# Altium footprint library Adams Altium Library.PcbLib: 250 footprints (part 14 of 16)
Each footprint in its own frame and in the unit in brackets; x right, y up, seen from the top. Pads: shape width x height; smd on the part's side, far side on the other; paste and mask are expansions set on the pad; w line width, h text height; cw(c..) or ccw(c..) is an arc to the next point about the centre after c.
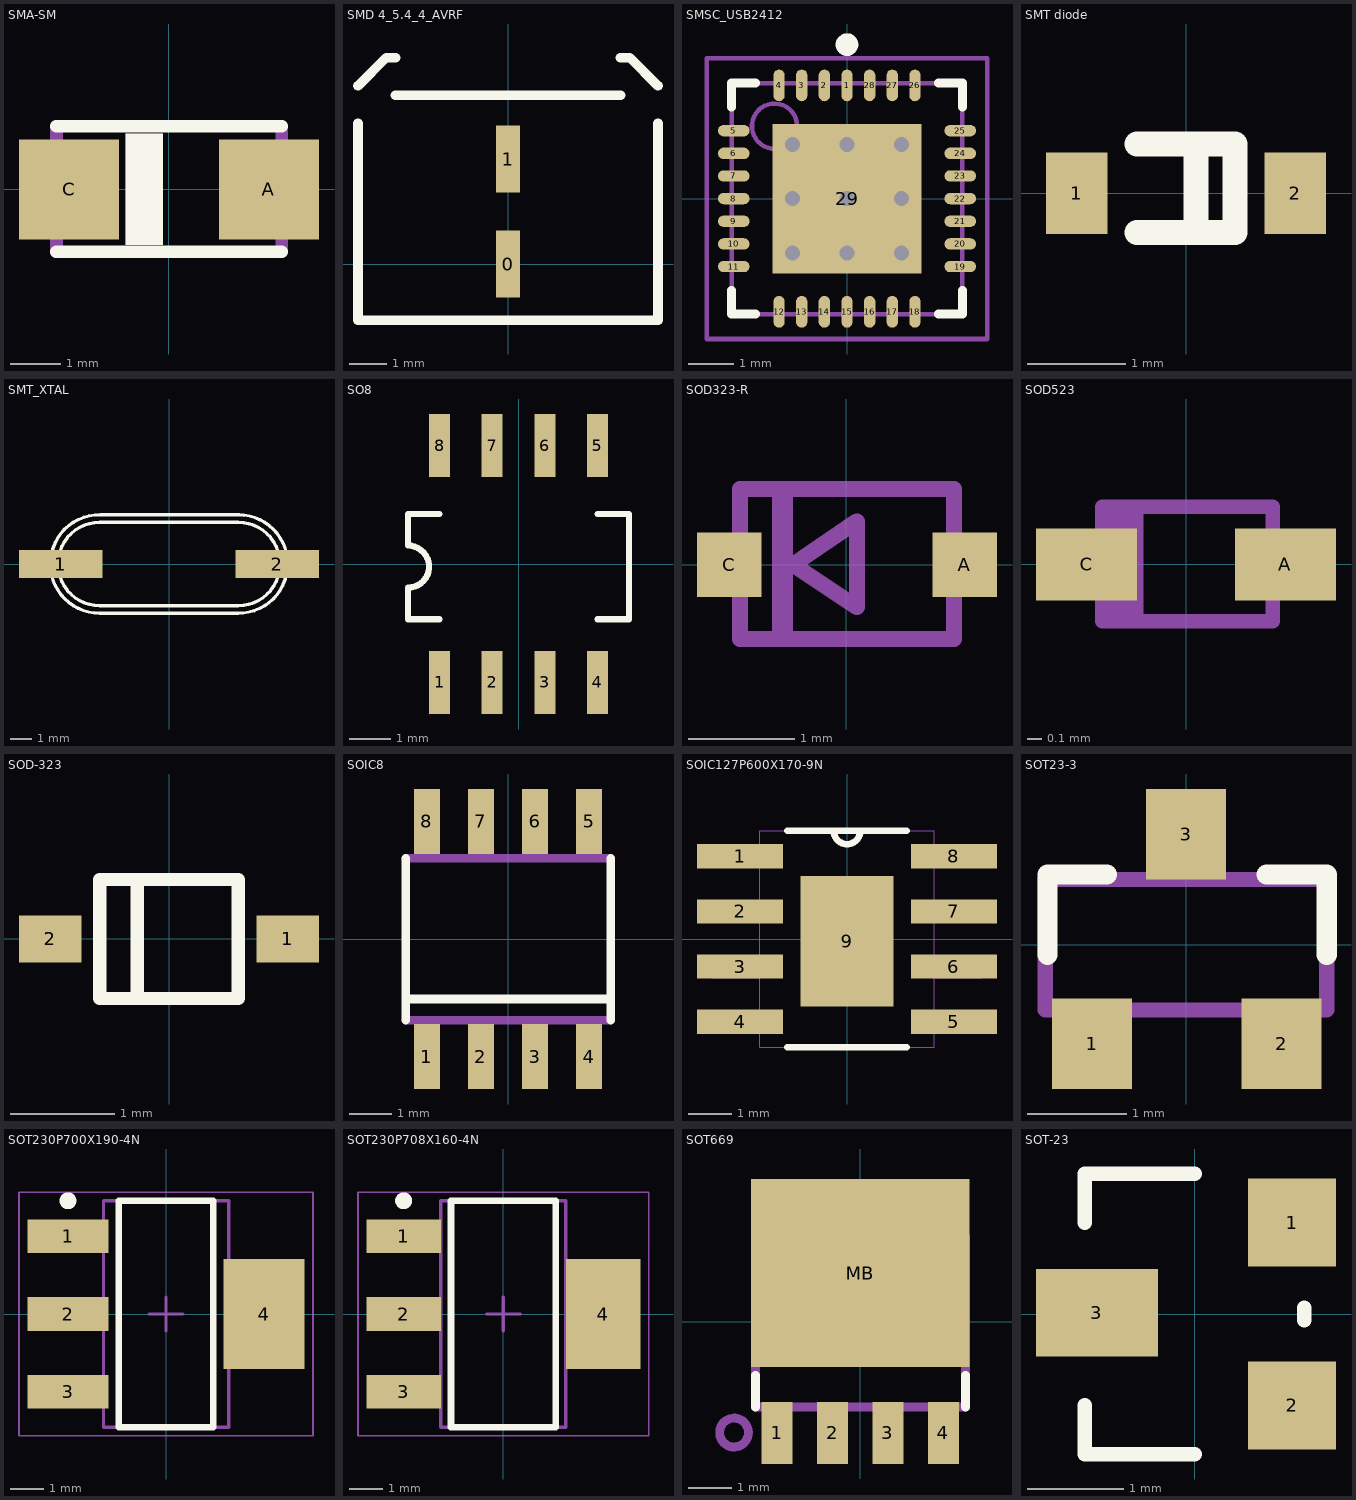
[diagram p13: the footprints below, top view; thin cyan lines are the x and y axes]

## SMA-SM [mil]
pads (2):
  rect 79x79 smd: A(79,0) C(-78.74,0)
Top Overlay:
  rectangle: -34.06,-43.9 -4.53,44
  lines w10: -88.58,-49.21 89,-49.21 ; -88.58,50 89,50
Mechanical 16:
  rectangle: -34.06,-43.9 -4.53,44
  rectangle: -110.24,-31.5 -93.7,32
  rectangle: 94,-32.48 111,32
  lines w10: -88.58,-49.21 -88.58,50 ; 89,-49.21 89,50
3D body: height 78.74, standoff 0, extent -105,-40 105,40
3D body: height 116.14, standoff 0, extent -93.58,-54.21 94,55

## SMD 4_5.4_4_AVRF [mm] "SMD Electrolytic"
height 4
pads (2):
  rect 0.65x1.8 smd: 0(0,0) 1(0,2.8)
Top Overlay:
  lines w0.254: -4,3.75 -4,-1.5 4,-1.5 4,3.75 ; -4,4.75 -3.25,5.5 -3,5.5 ; -3,4.5 3,4.5 ; 3,5.5 3.25,5.5 4,4.75

## SMSC_USB2412 [mm] "QFN, 28-Leads, Body 5.1x5.1mm (max), Pitch 0.50mm, IPC Medium Density"
height 1
pads (29):
  oval 0.25x0.7 smd: 1(0,2.5) 2(-0.5,2.5) 3(-1,2.5) 4(-1.5,2.5) 12(-1.5,-2.5) 13(-1,-2.5) 14(-0.5,-2.5) 15(0,-2.5) 16(0.5,-2.5) 17(1,-2.5) 18(1.5,-2.5) 26(1.5,2.5) 27(1,2.5) 28(0.5,2.5)
  oval 0.7x0.25 smd: 5(-2.5,1.5) 6(-2.5,1) 7(-2.5,0.5) 8(-2.5,0) 9(-2.5,-0.5) 10(-2.5,-1) 11(-2.5,-1.5) 19(2.5,-1.5) 20(2.5,-1) 21(2.5,-0.5) 22(2.5,0) 23(2.5,0.5) 24(2.5,1) 25(2.5,1.5)
  rect 3.3x3.3 smd: 29(0,0)
via -1.2,1.2 diameter 0.66 hole 0.33
via 0,1.2 diameter 0.66 hole 0.33
via 1.2,1.2 diameter 0.66 hole 0.33
via -1.2,0 diameter 0.66 hole 0.33
via 0,0 diameter 0.66 hole 0.33
via 1.2,0 diameter 0.66 hole 0.33
via -1.2,-1.2 diameter 0.66 hole 0.33
via 0,-1.2 diameter 0.66 hole 0.33
via 1.2,-1.2 diameter 0.66 hole 0.33
Top Overlay:
  circle w0.25: c0,3.4 r0.125
  lines w0.2: -2.55,-2.025 -2.55,-2.55 -2.025,-2.55 ; -2.55,2.025 -2.55,2.55 -2.025,2.55 ; 2.025,-2.55 2.55,-2.55 2.55,-2.025 ; 2.025,2.55 2.55,2.55 2.55,2.025
Mechanical 13:
  circle w0.1: c-1.6,1.6 r0.5
  lines w0.1: -2.55,-2.55 -2.55,2.55 2.55,2.55 2.55,-2.55 -2.55,-2.55
Mechanical 15:
  lines w0.1: -0.5,0 0.5,0 ; 0,-0.5 0,0.5 ; -3.1,-3.1 -3.1,3.1 3.1,3.1 3.1,-3.1 -3.1,-3.1
3D body: height 1, standoff 0.05, extent -2.55,-2.55 2.55,2.55

## SMT diode [mm]
pads (2):
  rect 0.63x0.83 smd: 1(-1.115,0) 2(1.115,0)
Top Overlay:
  lines w0.254: -0.5,-0.4 0.5,-0.4 0.5,0.5 -0.5,0.5 ; 0.1,-0.4 0.1,0.5

## SMT_XTAL [mil]
pads (2):
  rect 150x50 smd paste-11.81 mask-11.81: 1(-195,0) 2(195,0)
Top Overlay:
  lines w6: -124.07,88.58 ccw(c-125,0) -125,-88.58 125,-88.58 ; -123.57,88.58 126.5,88.58 ; 124.09,-88.58 ccw(c125,0) 125,88.58 ; -125,-75 cw(c-125,0) -125,75 125,75 cw(c125,0) 125,-75 -125,-75

## SO8 [mil]
pads (8):
  rect 20x60 smd: 1(-75,-112.5) 2(-25,-112.5) 3(25,-112.5) 4(75,-112.5) 5(75,112.5) 6(25,112.5) 7(-25,112.5) 8(-75,112.5)
Top Overlay:
  lines w6: -75,-52.5 -105,-52.5 -105,-22.5 ccw(c-105,-2.5) -105,17.5 -105,47.5 -75,47.5 ; 75,-52.5 105,-52.5 105,47.5 75,47.5

## SOD323-R [mil]
pads (2):
  rect 24x24 smd: A(44,0) C(-43.31,0)
Mechanical 16:
  rectangle: -27.56,-27.56 -19.69,28
  lines w6: -39.37,-27.56 -39.37,28 40,28 40,-27.56 -39.37,-27.56 ; -19.69,0 4,-15.75 4,16 -19.69,0
3D body: height 15.75, standoff 0, extent 35,-5 50,5
3D body: height 15.75, standoff 0, extent -50,-5 -35,5
3D body: height 27.56, standoff 0, extent -42.37,-30.56 43,31

## SOD523 [mil]
pads (2):
  rect 28x20 smd: A(27.56,0) C(-27.56,0)
Mechanical 16:
  rectangle: -29.53,-6.69 -21.26,7
  rectangle: 22,-6.69 30,7
  rectangle: -23.23,-15.75 -11.81,16
  lines w4: -23.23,-15.75 24,-15.75 24,16 -23.23,16 -23.23,-15.75
3D body: height 27.56, standoff 0, extent -23.21,-15.73 23.98,15.98
3D body: height 11.81, standoff 0, extent -29.53,-4.92 29.53,4.92

## SOD-323 [mm]
pads (2):
  rect 0.6x0.45 smd: 1(1.143,0) 2(-1.143,0)
Top Overlay:
  lines w0.127: -0.305,-0.559 -0.305,0.559 ; -0.666,-0.573 -0.666,0.573 0.666,0.573 0.666,-0.573 -0.666,-0.573

## SOIC8 [mil]
pads (8):
  rect 24x60 smd: 1(-75,-108.27) 2(-25,-108.27) 3(25,-108.27) 4(75,-108.27) 5(75,109) 6(25,109) 7(-25,109) 8(-75,109)
Top Overlay:
  lines w8: -94.49,-74.8 -94.49,-55.12 ; -94.49,75 -94.49,-55.12 ; 95,-74.8 95,-55.12 ; 95,75 95,-55.12 ; -94.49,-55.12 95,-55.12
Mechanical 16:
  rectangle: -84.65,79 -65.35,123
  rectangle: -34.65,79 -15.35,123
  rectangle: 16,79 35,123
  rectangle: 66,79 85,123
  rectangle: 66,-122.05 85,-78.74
  rectangle: 16,-122.05 35,-78.74
  rectangle: -34.65,-122.05 -15.35,-78.74
  rectangle: -84.65,-122.05 -65.35,-78.74
  lines w8: -94.49,-74.8 95,-74.8 ; -94.49,75 95,75
3D body: height 58.27, standoff 0, extent -98.49,-78.8 99,79
3D body: height 31.5, standoff 0, extent -85,-130 -65,-75
3D body: height 31.5, standoff 0, extent -35,-130 -15,-75
3D body: height 31.5, standoff 0, extent 15,-130 35,-75
3D body: height 31.5, standoff 0, extent 65,-130 85,-75
3D body: height 31.5, standoff 0, extent -85,75 -65,130
3D body: height 31.5, standoff 0, extent -35,75 -15,130
3D body: height 31.5, standoff 0, extent 15,75 35,130
3D body: height 31.5, standoff 0, extent 65,75 85,130

## SOIC127P600X170-9N [mil]
pads (9):
  rect 78x22 smd: 1(-97,75) 2(-97,25) 3(-97,-25) 4(-97,-75) 5(97,-75) 6(97,-25) 7(97,25) 8(97,75)
  rect 84x118 smd: 9(0,-2)
Top Overlay:
  lines w6: -54,-98 54,-98 ; -54,98 54,98 ; -12,98 ccw(c0,98) 12,98
Top Paste:
  region: -40,13 -34,13 -31,10 -17,10 -14,7 -14,-7 -17,-10 -31,-10 -35,-14 -40,-14
  region: 40,-13 34,-13 31,-10 17,-10 14,-7 14,7 17,10 31,10 35,14 40,14
  region: -40,55 40,55 40,40 25,40.29 19.15,39.13 14.19,35.81 10.87,30.85 9.71,25 10.2,25 9.42,21.1 7.21,17.79 3.9,15.58 0,14.8 -3.9,15.58 -7.21,17.79 -9.42,21.1 -10.2,25 -9.71,25 -10.87,30.85 -14.19,35.81 -19.15,39.13 -25,40.29 -25,40 -40,40
  region: 40,-58 -40,-58 -40,-43 -25,-43.29 -19.15,-42.13 -14.19,-38.81 -10.87,-33.85 -9.71,-28 -10.2,-28 -9.42,-24.1 -7.21,-20.79 -3.9,-18.58 0,-17.8 3.9,-18.58 7.21,-20.79 9.42,-24.1 10.2,-28 9.71,-28 10.87,-33.85 14.19,-38.81 19.15,-42.13 25,-43.29 25,-43 40,-43
Top Solder:
  drawing of 4 lines, arcs and shapes, not listed
Mechanical 16:
  lines w0: -12,98 ccw(c0,98) 12,98 ; -122,-85 -122,-65 -79,-65 -79,-85 -122,-85 ; -122,-35 -122,-15 -79,-15 -79,-35 -122,-35 ; -122,15 -122,35 -79,35 -79,15 -122,15 ; -122,65 -122,85 -79,85 -79,65 -122,65 ; -79,-98 79,-98 79,98 -79,98 -79,-98 ; 79,-85 79,-65 122,-65 122,-85 79,-85 ; 79,-35 79,-15 122,-15 122,-35 79,-35 ; 79,15 79,35 122,35 122,15 79,15 ; 79,65 79,85 122,85 122,65 79,65
3D body: height 23.62, standoff 0, extent -121.98,-84.98 -79.02,-65.02
3D body: height 23.62, standoff 0, extent -121.98,-34.98 -79.02,-15.02
3D body: height 66.14, standoff 0, extent -78.98,-97.98 78.98,97.98
3D body: height 23.62, standoff 0, extent -121.98,15.02 -79.02,34.98
3D body: height 23.62, standoff 0, extent -121.98,65.02 -79.02,84.98
3D body: height 23.62, standoff 0, extent 79.02,-84.98 121.98,-65.02
3D body: height 23.62, standoff 0, extent 79.02,-34.98 121.98,-15.02
3D body: height 23.62, standoff 0, extent 79.02,15.02 121.98,34.98
3D body: height 23.62, standoff 0, extent 79.02,65.02 121.98,84.98

## SOT23-3 [mil]
pads (3):
  rect 32x36 smd: 1(-37.4,-39.37) 2(38,-39.37) 3(0,44)
Top Overlay:
  lines w8: -55.12,-3.94 -55.12,28 -31.5,28 ; 32,28 56,28 56,-3.94
Mechanical 16:
  lines w6: -56,-26 -56,26 56,26 56,-26 -56,-26
3D body: height 44.09, standoff 0, extent -59,-29 59,29
3D body: height 15.75, standoff 0, extent -10,27.5 10,52.5
3D body: height 15.75, standoff 0, extent -47.5,-45 -22.5,-25
3D body: height 15.75, standoff 0, extent 27.5,-45 52.5,-25

## SOT230P700X190-4N [mm] "SOT223, 4-Leads, Body 6.50x7.00mm (avg), Pitch 2.30mm, IPC Medium Density"
height 1.9
pads (4):
  rect 2.4x1 smd: 1(-2.9,2.3) 2(-2.9,0) 3(-2.9,-2.3)
  rect 2.4x3.25 smd: 4(2.9,0)
Top Overlay:
  circle w0.25: c-2.9,3.35 r0.125
  lines w0.2: -1.4,-3.35 1.4,-3.35 1.4,3.35 -1.4,3.35 -1.4,-3.35
Mechanical 13:
  lines w0.1: -1.85,-3.35 1.85,-3.35 1.85,3.35 -1.85,3.35 -1.85,-3.35
Mechanical 15:
  lines w0.05: -4.35,-3.6 4.35,-3.6 4.35,3.6 -4.35,3.6 -4.35,-3.6
  lines w0.1: -0.5,0 0.5,0 ; 0,-0.5 0,0.5
3D body: height 1.9, standoff 0.1, extent -1.85,-3.35 1.85,3.35

## SOT230P708X160-4N [mm] "SOT223, 4-Leads, Body 6.60x7.08mm (avg), Pitch 2.30mm, IPC Medium Density"
height 1.6
pads (4):
  rect 2.2x1 smd: 1(-2.95,2.3) 2(-2.95,0) 3(-2.95,-2.3)
  rect 2.2x3.25 smd: 4(2.95,0)
Top Overlay:
  circle w0.25: c-2.95,3.35 r0.125
  lines w0.2: -1.55,-3.35 -1.55,3.35 1.55,3.35 1.55,-3.35 -1.55,-3.35
Mechanical 13:
  lines w0.1: -1.85,-3.35 -1.85,3.35 1.85,3.35 1.85,-3.35 -1.85,-3.35
Mechanical 15:
  lines w0.05: -4.3,-3.6 -4.3,3.6 4.3,3.6 4.3,-3.6 -4.3,-3.6
  lines w0.1: -0.5,0 0.5,0 ; 0,-0.5 0,0.5
3D body: height 1.6, standoff 0.06, extent -1.85,-3.35 1.85,3.35

## SOT669 [mil]
pads (5):
  rect 28x56 smd: 1(-75,-100.39) 2(-25,-100.39) 3(25,-100.39) 4(75,-100.39)
  rect 197x170 smd: MB(0,44)
Top Overlay:
  lines w8: -94.49,-76.77 -94.49,-48.23 ; 95,-76.77 95,-48.23
Top Paste:
  region: -96.06,128 -85.04,128 -85.04,76 -96.06,76
  region: 87,128 97,128 97,76 87,76
  region: -68.11,128 -45.67,128 -45.67,103 -49.21,100 -64.17,100 -68.11,104
  region: -30.32,128 -7.87,128 -7.87,103 -11.42,100 -26.38,100 -30.32,104
  region: 8,128 30,128 30,104 26,100 12,100 8,104
  region: 45,128 67,128 67,104 64,100 49,100 45,104
  region: -59.84,83 -48.03,83 -45.28,80 -45.28,67 -50,62 -59.84,62
  region: 60,83 49,83 46,80 46,67 50,62 60,62
  region: -59.45,-28.74 -49.61,-28.74 -45.28,-33.07 -45.28,-37.8 -59.45,-37.8
  region: 60,-28.74 51,-28.74 47,-33.07 47,-37.8 60,-37.8
  region: 60,-14.57 60,10 51,10 45,4 45,-8.66 51,-14.57
  region: 60,23 60,47 50,47 45,41 45,29 51,23
  region: -59.84,10 -59.84,-14.17 -50.39,-14.17 -44.88,-8.66 -44.88,4 -50.79,10
  region: -59.84,48 -59.84,24 -50.39,24 -44.88,30 -44.88,42 -50.79,48
  region: -29.13,-37.8 -29.13,-32.68 -25.59,-29.13 -11.42,-29.13 -7.87,-32.68 -7.87,-37.8
  region: 9,-37.8 9,-32.68 13,-29.13 27,-29.13 30,-32.68 30,-37.8
  region: -24.8,86 -13.39,86 -8.27,81 -8.27,66 -11.81,62 -25.59,62 -29.53,66 -29.53,81
  region: 13,86 25,86 30,80 30,65 26,62 13,62 9,66 9,81
  region: 14,47 25,47 30,42 30,27 27,24 13,24 9,28 9,43
  region: -24.41,49 -12.99,49 -7.87,43 -7.87,28 -11.42,25 -25.2,25 -29.13,29 -29.13,44
  region: 13,10 25,10 30,5 30,-10.24 26,-13.78 13,-13.78 9,-9.84 9,6
  region: -24.41,11 -12.99,11 -7.87,6 -7.87,-9.84 -11.42,-13.39 -25.2,-13.39 -29.13,-9.45 -29.13,6
Top Solder:
  drawing of 5 lines, arcs and shapes, not listed
Mechanical 16:
  circle w8: c-113.98,-100 r13
  rectangle: -84.84,-122.05 -65.16,-80.71
  rectangle: -86.81,-110.24 -63.19,-85.63
  rectangle: -34.84,-122.05 -15.16,-80.71
  rectangle: -36.81,-110.24 -13.19,-85.63
  rectangle: 16,-122.05 35,-80.71
  rectangle: 14,-110.24 37,-85.63
  rectangle: 66,-122.05 85,-80.71
  rectangle: 64,-110.24 87,-85.63
  region: -94.49,85 -94.63,111 -94.64,111.06 -94.03,114.16 -92.27,116.79 -89.65,118.54 -86.62,119.14 -86.61,119 87,119.16 90.12,118.54 92.77,116.77 94.54,114.12 95.16,111 95,111 95,85 48,85 48,91 -47.24,91 -47.24,85
  lines w8: -94.49,-76.77 95,-76.77 95,77 -94.49,77 -94.49,-76.77
3D body: height 43.31, standoff 0, extent -94.47,-76.75 94.98,76.98
3D body: height 11.81, standoff 0, extent -96.06,-37.8 97,128
3D body: height 11.81, standoff 0, extent -85,-120 -65,-75
3D body: height 11.81, standoff 0, extent -35,-120 -15,-75
3D body: height 11.81, standoff 0, extent 15,-120 35,-75
3D body: height 11.81, standoff 0, extent 65,-120 85,-75

## SOT-23 [mil]
pads (3):
  rect 36x36 smd: 1(40,37.5) 2(40,-37.5)
  rect 50x36 smd: 3(-40,0.5)
Top Overlay:
  lines w6: -45,-37.5 -45,-57.5 0,-57.5 ; -45,37.5 -45,57.5 0,57.5 ; 45,-2.5 45,2.5